# Altium schematic symbol library SYM-Connector.SchLib: 117 symbols (part 4 of 4)
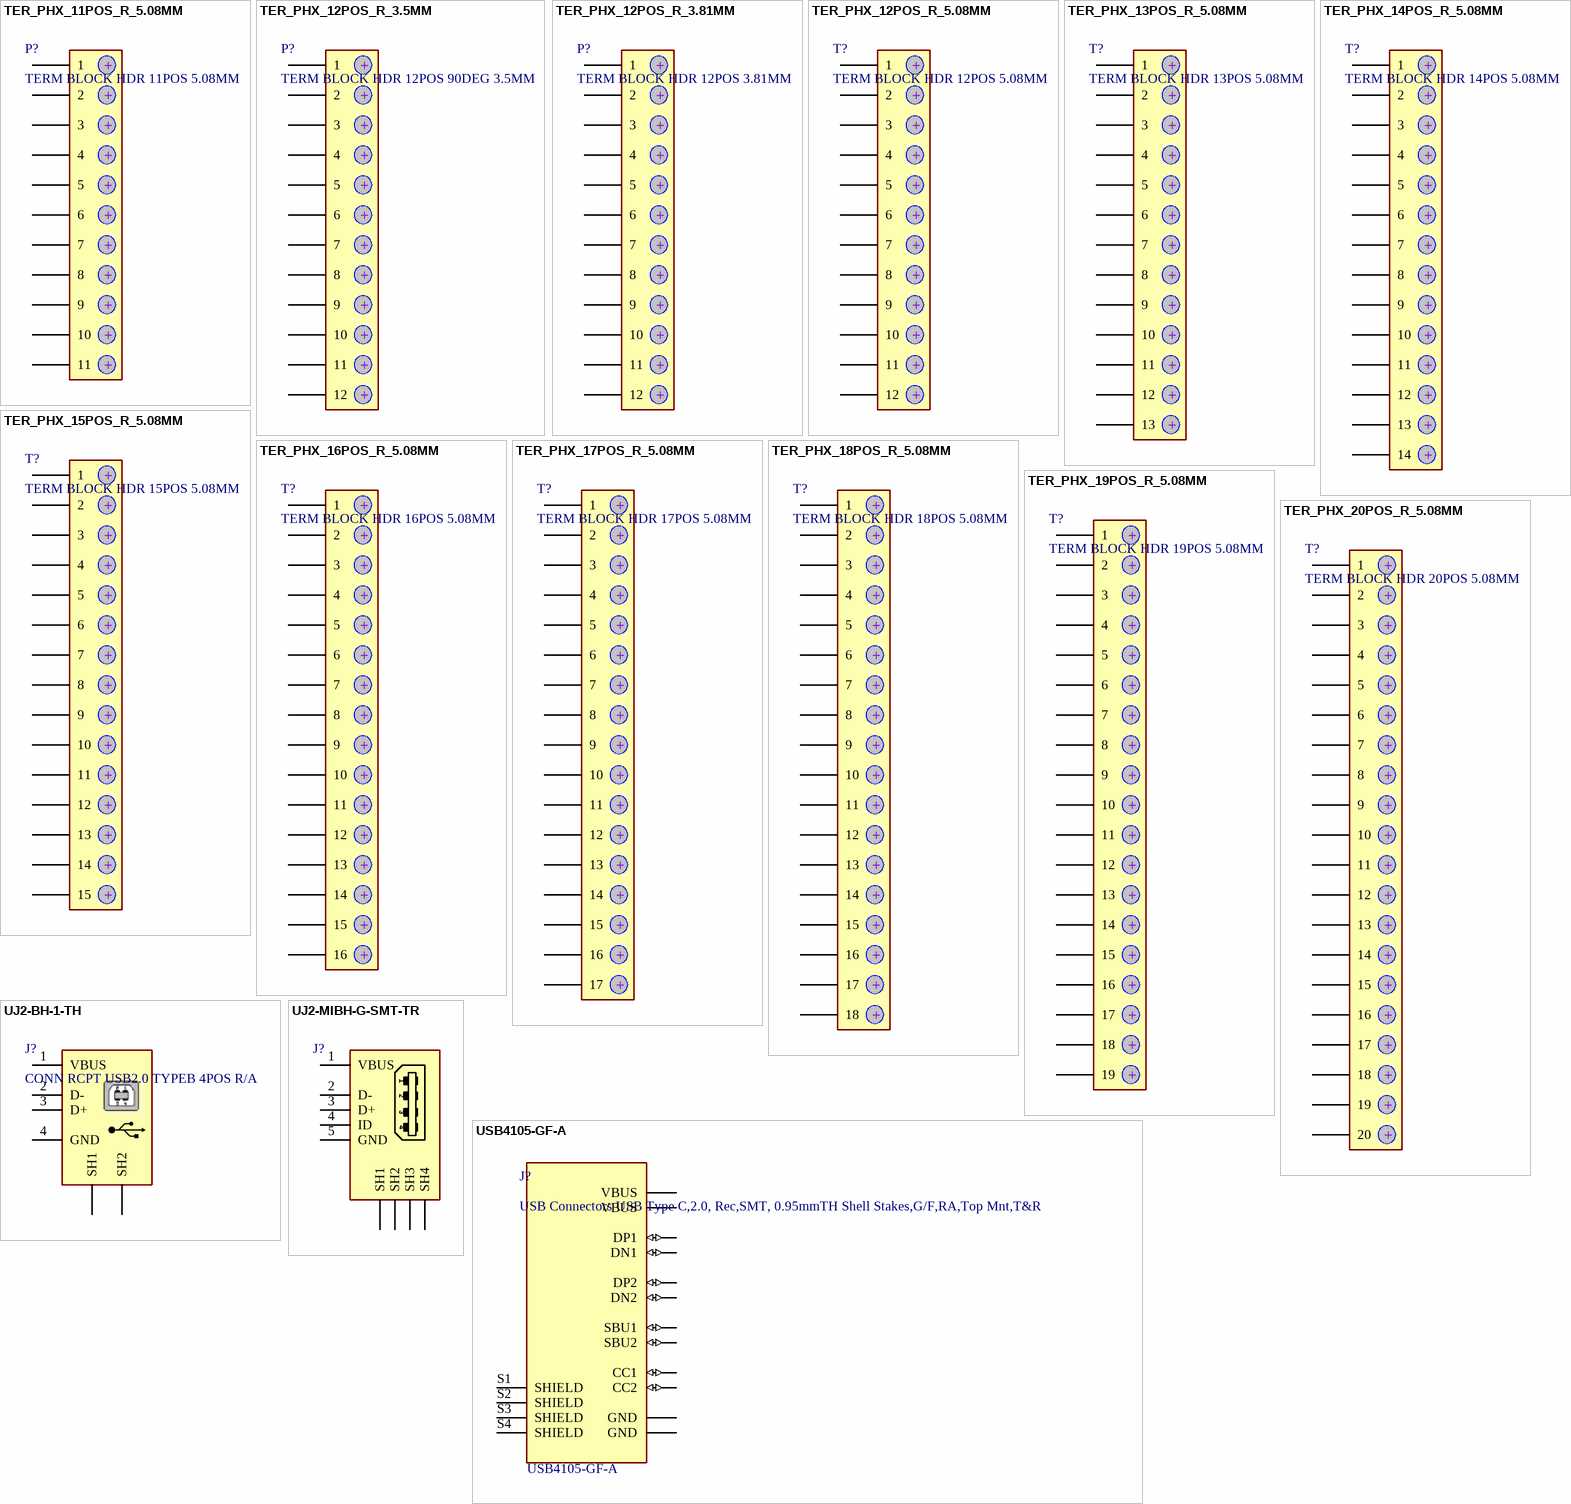
[diagram p7: symbols TER_PHX_11POS_R_5.08MM to USB4105-GF-A]

## TER_PHX_13POS_R_5.08MM
designator T?, comment TERM BLOCK HDR 13POS 5.08MM
Pluggable Terminal Blocks 13 Pos 5.08mm pitch Through Hole Header; Manufacturer: Phoenix Contact; Manufacturer Part Number: 1759127; Color: Green; Current Rating: 12A; Voltage Rating: 250V; Number of Positions: 13; Number of Levels: 1; Current: 15A; Voltage: 300V; Pitch: 0.2inch; Supplier 1: Digi-Key; RoHS: Yes; Category: Terminal Blocks; Pricing 1: 50=4/66000 (USD); Mount: Through Hole; Housing Material: PBT; Weight: 5.361642oz; Contact Plating: Tin; Housing Color: Green; Package Quantity: 50; Packaging: Bulk; Termination: Solder; Number of Positions Per Level: 13; Series: COMBICON MSTB; Flammability Rating: UL94 V-0; RoHS Compliant: Yes; ComponentLink1URL: http://components.arrow.com/part/dataview/44201623S74982N1555?src-supplier=Arrow+Electronics; ComponentLink1Description: http://components.arrow.com/part/dataview/44201623S74982N1555?src-supplier=Arrow+Electronics; ComponentLink2URL: http://www.mouser.com/ds/2/324/ItemDetail_1759127-916674.pdf?src-supplier=Mouser; ComponentLink2Description: http://www.mouser.com/ds/2/324/ItemDetail_1759127-916674.pdf?src-supplier=Mouser; Supplier Part Number 1: 1759127-ND
footprint TER-Phoenix-R-13
pins: 1, 2, 3, 4, 5, 6, 7, 8, 9, 10, 11, 12, 13
text: +

## TER_PHX_14POS_R_5.08MM
designator T?, comment TERM BLOCK HDR 14POS 5.08MM
Pluggable Terminal Blocks 14 Pos 5.08mm pitch Through Hole Header; Manufacturer: Phoenix Contact; Manufacturer Part Number: 1759130; Color: Green,Grey; Current Rating: 12A; Voltage Rating: 250V; Number of Positions Per Level: 14; Number of Levels: 1; Voltage: 300V; Connector Type: Plug; Approvals: UL,CSA,VDE,CB,GOST; Supplier 1: Digi-Key; RoHS: Yes; Category: Terminal Blocks; Stock 1: 67; Pricing 1: 1=5/59000, 10=5/43600, 50=5/08000, 100=4/67360, 250=4/31800, 500=4/11484, 1000=3/91160 (USD); Mount: Through Hole; Contact Plating: Tin; Weight: 5.361642oz; Housing Color: Green; Housing Material: Polybutylene; Contact Material: Tin; Package Quantity: 50; Packaging: Bulk; Number of Rows: 1; Termination: Solder; Current: 12A; Number of Positions: 14; Series: MSTB; Number of Poles: 14; Max Current Rating: 12A; Number of Contacts: 14; Orientation: Right Angle; Length: 71.12mm; Width: 71.12mm; Height: 12.1mm; Pitch: 5.08mm; Depth: 12mm; Flammability Rating: UL94 V-0; RoHS Compliant: Yes; Lead Free: Lead Free; ComponentLink1URL: https://datasheet.ciiva.com/15197/getdatasheetpartid-376824-15197356.pdf?src-supplier=Verical; ComponentLink1Description: https://datasheet.ciiva.com/15197/getdatasheetpartid-376824-15197356.pdf?src-supplier=Verical; ComponentLink2URL: https://datasheet.ciiva.com/6747/1759130-6747568.pdf?src-supplier=Digi-Key; ComponentLink2Description: https://datasheet.ciiva.com/6747/1759130-6747568.pdf?src-supplier=Digi-Key; ComponentLink3URL: https://datasheet.ciiva.com/29210/569665-da-01-de-grundgehaeuse-1759130-50-st-29210803.pdf?src-supplier=Conrad; ComponentLink3Description: https://datasheet.ciiva.com/29210/569665-da-01-de-grundgehaeuse-1759130-50-st-29210803.pdf?src-supplier=Conrad; Supplier Part Number 1: 277-6667-ND
footprint TER-Phoenix-R-14
pins: 1, 2, 3, 4, 5, 6, 7, 8, 9, 10, 11, 12, 13, 14
text: +

## TER_PHX_15POS_R_5.08MM
designator T?, comment TERM BLOCK HDR 15POS 5.08MM
Pluggable Terminal Blocks 15 Pos 5.08mm pitch Through Hole Header; Manufacturer: Phoenix Contact; Manufacturer Part Number: 1759143; Color: Green,Grey; Current Rating: 12A; Voltage Rating: 250V; Number of Positions Per Level: 15; Number of Levels: 1; Voltage: 300V; Connector Type: Plug; Supplier 1: Digi-Key; RoHS: Yes; Category: Terminal Blocks; Stock 1: 40; Pricing 1: 1=5/90000, 10=5/73500, 50=5/36000, 100=4/93120, 250=4/55600, 500=4/34164, 1000=4/12720 (USD); Mount: Through Hole; Contact Plating: Tin; Weight: 5.361642oz; Contact Material: Tin; Housing Color: Green; Housing Material: Polybutylene; Packaging: Bulk; Number of Rows: 1; Package Quantity: 50; Termination: Solder; Current: 12A; Number of Positions: 15; Number of Contacts: 15; Orientation: Right Angle; Series: MSTB; Max Current Rating: 12A; Length: 76.2mm; Width: 76.2mm; Height: 12.1mm; Pitch: 5.08mm; Depth: 12mm; Flammability Rating: UL94 V-0; RoHS Compliant: Yes; Lead Free: Lead Free; ComponentLink1URL: https://datasheet.ciiva.com/16096/1759143-16096500.pdf?src-supplier=Onlinecomponents.com; ComponentLink1Description: https://datasheet.ciiva.com/16096/1759143-16096500.pdf?src-supplier=Onlinecomponents.com; ComponentLink2URL: https://datasheet.ciiva.com/6762/1759143-6762393.pdf?src-supplier=Digi-Key; ComponentLink2Description: https://datasheet.ciiva.com/6762/1759143-6762393.pdf?src-supplier=Digi-Key; ComponentLink3URL: https://datasheet.ciiva.com/29209/567712-da-01-de-grundgehaeuse-1759143-50-st-29209124.pdf?src-supplier=Conrad; ComponentLink3Description: https://datasheet.ciiva.com/29209/567712-da-01-de-grundgehaeuse-1759143-50-st-29209124.pdf?src-supplier=Conrad; Supplier Part Number 1: 277-6295-ND
footprint TER-Phoenix-R-15
pins: 1, 2, 3, 4, 5, 6, 7, 8, 9, 10, 11, 12, 13, 14, 15
text: +

## TER_PHX_16POS_R_5.08MM
designator T?, comment TERM BLOCK HDR 16POS 5.08MM
Pluggable Terminal Blocks 16 Pos 5.08mm pitch Through Hole Header; Manufacturer: Phoenix Contact; Manufacturer Part Number: 1759156; Color: Green,Grey; Current Rating: 12A; Voltage Rating: 250V; Number of Positions Per Level: 16; Number of Levels: 1; Voltage: 300V; Connector Type: Plug; Supplier 1: Digi-Key; RoHS: Yes; Category: Terminal Blocks; Stock 1: 28; Pricing 1: 1=6/35000, 10=6/17400, 50=5/77000, 100=5/30840, 250=4/90452, 500=4/67374, 1000=4/44290 (USD); Mount: Through Hole; Contact Plating: Tin; Weight: 5.361642oz; Housing Material: Polybutylene; Contact Material: Tin; Housing Color: Green; Package Quantity: 50; Packaging: Bulk; Number of Rows: 1; Termination: Solder; Current: 12A; Number of Positions: 16; Series: MSTB; Max Current Rating: 12A; Number of Contacts: 16; Orientation: Right Angle; Length: 81.28mm; Width: 81.28mm; Height: 12.1mm; Pitch: 5.08mm; Depth: 12mm; Flammability Rating: UL94 V-0; Lead Free: Lead Free; RoHS Compliant: Yes; ComponentLink1URL: https://datasheet.ciiva.com/16096/1759156-16096502.pdf?src-supplier=Onlinecomponents.com; ComponentLink1Description: https://datasheet.ciiva.com/16096/1759156-16096502.pdf?src-supplier=Onlinecomponents.com; ComponentLink2URL: https://datasheet.ciiva.com/15197/getdatasheetpartid-173423-15197357.pdf?src-supplier=Verical; ComponentLink2Description: https://datasheet.ciiva.com/15197/getdatasheetpartid-173423-15197357.pdf?src-supplier=Verical; ComponentLink3URL: https://datasheet.ciiva.com/6762/1759156-6762436.pdf?src-supplier=Digi-Key; ComponentLink3Description: https://datasheet.ciiva.com/6762/1759156-6762436.pdf?src-supplier=Digi-Key; ComponentLink4URL: https://datasheet.ciiva.com/29209/567690-da-01-de-grundgehaeuse-1759156-50-st-29209110.pdf?src-supplier=Conrad; ComponentLink4Description: https://datasheet.ciiva.com/29209/567690-da-01-de-grundgehaeuse-1759156-50-st-29209110.pdf?src-supplier=Conrad; Supplier Part Number 1: 277-6245-ND
footprint TER-Phoenix-R-16
pins: 1, 2, 3, 4, 5, 6, 7, 8, 9, 10, 11, 12, 13, 14, 15, 16
text: +

## TER_PHX_17POS_R_5.08MM
designator T?, comment TERM BLOCK HDR 17POS 5.08MM
Pluggable Terminal Blocks 17 Pos 5.08mm pitch Through Hole Header; Manufacturer: Phoenix Contact; Manufacturer Part Number: 1759169; Color: Green; Current Rating: 12A; Voltage Rating: 250V; Number of Positions: 17; Number of Levels: 1; Current: 15A; Voltage: 300V; Supplier 1: Digi-Key; RoHS: Yes; Category: Terminal Blocks; Pricing 1: 50=6/15000 (USD); Mount: Through Hole; Contact Plating: Tin; Weight: 0.260322oz; Housing Color: Green; Housing Material: Polybutylene; Package Quantity: 50; Packaging: Bulk; Termination: Solder; Number of Positions Per Level: 17; Number of Rows: 1; Max Current Rating: 12A; Orientation: Right Angle; Series: COMBICON MSTB; Length: 86.36mm; Pitch: 5.08mm; Depth: 12mm; Flammability Rating: UL94 V-0; Lead Free: Lead Free; RoHS Compliant: Yes; ComponentLink1URL: https://datasheet.ciiva.com/14849/1759169-14849512.pdf?src-supplier=Arrow+Electronics; ComponentLink1Description: https://datasheet.ciiva.com/14849/1759169-14849512.pdf?src-supplier=Arrow+Electronics; ComponentLink2URL: https://datasheet.ciiva.com/817/1759169-817065.pdf?src-supplier=Digi-Key; ComponentLink2Description: https://datasheet.ciiva.com/817/1759169-817065.pdf?src-supplier=Digi-Key; Supplier Part Number 1: 1759169-ND
footprint TER-Phoenix-R-17
pins: 1, 2, 3, 4, 5, 6, 7, 8, 9, 10, 11, 12, 13, 14, 15, 16, 17
text: +

## TER_PHX_18POS_R_5.08MM
designator T?, comment TERM BLOCK HDR 18POS 5.08MM
Pluggable Terminal Blocks 18 Pos 5.08mm pitch Through Hole Header; Manufacturer: Phoenix Contact; Manufacturer Part Number: 1759172; Color: Green; Current Rating: 12A; Voltage Rating: 250V; Number of Positions: 18; Number of Levels: 1; Current: 15A; Voltage: 300V; Gender: Male; Supplier 1: Digi-Key; RoHS: Yes; Category: Terminal Blocks; Pricing 1: 50=6/48000 (USD); Mount: Through Hole; Contact Plating: Tin; Housing Color: Green; Weight: 5.361642oz; Housing Material: Polybutylene; Package Quantity: 50; Packaging: Bulk; Termination: Solder; Number of Positions Per Level: 18; Series: COMBICON MSTB; Number of Rows: 1; Max Current Rating: 12A; Number of Contacts: 18; Orientation: Right Angle; Length: 91.44mm; Pitch: 5.08mm; Depth: 12mm; Flammability Rating: UL94 V-0; RoHS Compliant: Yes; ComponentLink1URL: https://datasheet.ciiva.com/817/1759172-817123.pdf?src-supplier=Digi-Key; ComponentLink1Description: https://datasheet.ciiva.com/817/1759172-817123.pdf?src-supplier=Digi-Key; ComponentLink2URL: https://datasheet.ciiva.com/24321/1759172-24321961.pdf?src-supplier=Onlinecomponents.com; ComponentLink2Description: https://datasheet.ciiva.com/24321/1759172-24321961.pdf?src-supplier=Onlinecomponents.com; Supplier Part Number 1: 1759172-ND
footprint TER-Phoenix-R-18
pins: 1, 2, 3, 4, 5, 6, 7, 8, 9, 10, 11, 12, 13, 14, 15, 16, 17, 18
text: +

## TER_PHX_19POS_R_5.08MM
designator T?, comment TERM BLOCK HDR 19POS 5.08MM
Pluggable Terminal Blocks 19 Pos 5.08mm pitch Through Hole Header; Manufacturer: Phoenix Contact; Manufacturer Part Number: 1759185; Color: Green; Current Rating: 12A; Voltage Rating: 250V; Number of Positions: 19; Number of Levels: 1; Current: 15A; Voltage: 300V; Supplier 1: Digi-Key; RoHS: Yes; Category: Terminal Blocks; Pricing 1: 50=6/85000 (USD); Mount: Through Hole; Contact Plating: Tin; Housing Color: Green; Housing Material: Polybutylene; Package Quantity: 50; Number of Rows: 1; Max Current Rating: 12A; Packaging: Bulk; Number of Positions Per Level: 19; Termination: Solder; Orientation: Right Angle; Series: COMBICON MSTB; Length: 96.52mm; Pitch: 5.08mm; Depth: 12mm; Flammability Rating: UL94 V-0; RoHS Compliant: Yes; ComponentLink1URL: http://components.arrow.com/part/dataview/44201636S76283N1555?src-supplier=Arrow+Electronics; ComponentLink1Description: http://components.arrow.com/part/dataview/44201636S76283N1555?src-supplier=Arrow+Electronics; ComponentLink2URL: https://media.digikey.com/pdf/Data%20Sheets/Phoenix%20Contact%20PDFs/1759185.pdf?src-supplier=Digi-Key; ComponentLink2Description: https://media.digikey.com/pdf/Data%20Sheets/Phoenix%20Contact%20PDFs/1759185.pdf?src-supplier=Digi-Key; ComponentLink3URL: http://www.phoenixcontact.com/us/products/1759185/pdf?src-supplier=Mouser; ComponentLink3Description: http://www.phoenixcontact.com/us/products/1759185/pdf?src-supplier=Mouser; Supplier Part Number 1: 1759185-ND
footprint TER-Phoenix-R-19
pins: 1, 2, 3, 4, 5, 6, 7, 8, 9, 10, 11, 12, 13, 14, 15, 16, 17, 18, 19
text: +

## TER_PHX_20POS_R_5.08MM
designator T?, comment TERM BLOCK HDR 20POS 5.08MM
Pluggable Terminal Blocks 20 Pos 5.08mm pitch Through Hole Header; Manufacturer: Phoenix Contact; Manufacturer Part Number: 1759198; Color: Green; Number of Positions Per Level: 20; Number of Levels: 1; Current: 12A; Voltage: 300V; Voltage Rating: 250V; Connector Type: Plug; Approvals: CSA,VDE,cULus,CB; Supplier 1: Digi-Key; RoHS: Yes; Category: Terminal Blocks; Pricing 1: 50=6/48900 (USD); Mount: Through Hole; Contact Plating: Tin; Weight: 5.361642oz; Housing Color: Green; Housing Material: Polybutylene; Contact Material: Tin; Termination: Solder; Number of Positions: 20; Package Quantity: 50; Packaging: Bulk; Number of Rows: 1; Current Rating: 12A; Number of Contacts: 20; Orientation: Right Angle; Max Current Rating: 12A; Number of Poles: 20; Length: 101.6mm; Width: 101.6mm; Height: 12.1mm; Pitch: 5.08mm; Depth: 12mm; Flammability Rating: UL94 V-0; ComponentLink1URL: https://datasheet.ciiva.com/6747/1759198-6747778.pdf?src-supplier=Digi-Key; ComponentLink1Description: https://datasheet.ciiva.com/6747/1759198-6747778.pdf?src-supplier=Digi-Key; ComponentLink2URL: https://datasheet.ciiva.com/16096/1759198-16096504.pdf?src-supplier=Onlinecomponents.com; ComponentLink2Description: https://datasheet.ciiva.com/16096/1759198-16096504.pdf?src-supplier=Onlinecomponents.com; ComponentLink3URL: https://datasheet.ciiva.com/29208/566937-da-01-de-grundgehaeuse-1759198-50-st-29208224.pdf?src-supplier=Conrad; ComponentLink3Description: https://datasheet.ciiva.com/29208/566937-da-01-de-grundgehaeuse-1759198-50-st-29208224.pdf?src-supplier=Conrad; Supplier Part Number 1: 277-6665-ND
footprint TER-Phoenix-R-20
pins: 1, 2, 3, 4, 5, 6, 7, 8, 9, 10, 11, 12, 13, 14, 15, 16, 17, 18, 19, 20
text: +

## UJ2-BH-1-TH
designator J?, comment CONN RCPT USB2.0 TYPEB 4POS R/A
Conn USB Type B F 4 POS 2.54mm Solder RA Thru-Hole 4 Terminal 1 Port; Manufacturer: CUI; Manufacturer Part Number: UJ2-BH-1-TH; Connector Type: Jack; Number of Contacts: 4; Gender: Receptacle; Number of Ports: 1; Mating Cycles: 1500; Shielding: Shielded; Supplier 1: Digi-Key; RoHS: Yes; Category: Connectors; Mount: Through Hole; Number of Pins: 4; Contact Plating: Gold; Insulation Color: Black; Min Operating Temperature: -20°C; Max Operating Temperature: 85°C; Packaging: Tray; Orientation: Horizontal; Features: Shielded; Termination: Solder; Lead Free: Lead Free; Flammability Rating: UL94 V-0; ComponentLink1URL: https://datasheet.ciiva.com/53329/uj2-bh-th-53329770.pdf?src-supplier=Digi-Key; ComponentLink1Description: https://datasheet.ciiva.com/53329/uj2-bh-th-53329770.pdf?src-supplier=Digi-Key; Supplier Part Number 1: 102-3999-ND
footprint USB_B_RA_THD (CONN, USB B, Receptacle, RIGHT ANGLE, THD)
pins: 1 VBUS (power), 2 D-, 3 D+, 4 GND (power), 5 SH2, 5 SH1

## UJ2-MIBH-G-SMT-TR
designator J?, comment USB JACK, 2.0, MICRO B TYPE, 5 P  (value not drawn)
Conn Micro USB 2.0 Type B RCP 5 POS 0.65mm Solder RA SMD 5 Terminal 1 Port T/R; Manufacturer: CUI Devices; Manufacturer Part Number: UJ2-MIBH-G-SMT-TR; Supplier 1: Digi-Key; Category: USB Connectors; Pricing 1: 1=0/47000, 10=0/41000, 25=0/37480, 50=0/35280, 100=0/33810, 250=0/30872, 500=0/29400 (USD); ComponentLink1URL: https://datasheet.octopart.com/UJ2-MIBH-G-SMT-TR-CUI-Devices-datasheet-150640903.pdf?src-supplier=CUI+Devices; ComponentLink1Description: https://datasheet.octopart.com/UJ2-MIBH-G-SMT-TR-CUI-Devices-datasheet-150640903.pdf?src-supplier=CUI+Devices; ComponentLink2URL: https://datasheet.octopart.com/UJ2-MIBH-G-SMT-TR-CUI-Devices-datasheet-151547936.pdf?src-supplier=Electro+Sonic; ComponentLink2Description: https://datasheet.octopart.com/UJ2-MIBH-G-SMT-TR-CUI-Devices-datasheet-151547936.pdf?src-supplier=Electro+Sonic; Supplier Part Number 1: 2223-UJ2-MIBH-G-SMT-TRCT-ND
footprint USB_MICRO_B_BM_SHS (CONN, USB Micro AB - Standard (Bottom mount), Shell SMT)
pins: 0 SH2, 0 SH3, 0 SH4, 0 SH1, 1 VBUS (power), 2 D-, 3 D+, 4 ID (power), 5 GND (power)

## USB4105-GF-A
designator J?, comment USB Connectors USB Type C,2.0, Rec,SMT, 0.95mmTH Shell Stakes,G/F,RA,Top Mnt,T&R  Manufacturer Part Number: USB4105-GF-A
Conn USB 2.0 Type C RCP 24 POS 0.3mm/0.5mm Solder RA SMD 24 Terminal 1 Port T/R; Manufacturer: Global Connector Technology; Gender: Receptacle; Mating Cycles: 10000; Shielding: Shielded; Number of Ports: 1; Supplier 1: Future Electronics; RoHS: No; Category: USB Connectors; Pricing 1: 800=0/42500, 1600=0/41500, 2400=0/41000, 3200=0/41000, 4000=0/39500 (USD); Mount: Surface Mount,Through Hole,Horizontal; Contact Plating: Gold; Insulation Color: Black; Min Operating Temperature: -40°C; Max Operating Temperature: 85°C; Connector Type: USB; Series: USB4105; Termination: Solder; Flammability Rating: UL94 V-0; ComponentLink1URL: https://gct.co/files/drawings/usb4105.pdf?src-supplier=Digi-Key; ComponentLink1Description: https://gct.co/files/drawings/usb4105.pdf?src-supplier=Digi-Key; Supplier Part Number 1: 3158113
footprint USB4105-GF-A
pins: A1_B12 GND (power), A4_B9 VBUS (power), A5 CC1 (io), A6 DP1 (io), A7 DN1 (io), A8 SBU1 (io), B1_A12 GND (power), B4_A9 VBUS (power), B5 CC2 (io), B6 DP2 (io), B7 DN2 (io), B8 SBU2 (io), S1 SHIELD, S2 SHIELD, S3 SHIELD, S4 SHIELD